# EAGLE library part 691311500009 (library Wuerth_Elektronik_eiCan_Terminal_Blocks_v2.0)
WR-TBL Serie 311 - 5.08 mm Open Vertical PCB Header , 9 Pins
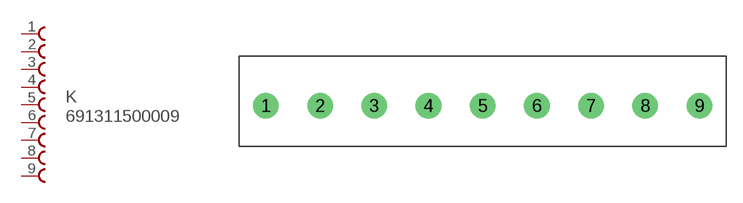
[diagram p94: symbol with the pads of 691311500009; footprint 691311500009]

Designator prefix K

## 691311500009  [691311500009]
1  1  pas
2  2  pas
3  3  pas
4  4  pas
5  5  pas
6  6  pas
7  7  pas
8  8  pas
9  9  pas

## Footprint 691311500009 (pad centres in mm)
WR-TBL Serie 311 - 5.08 mm Open Vertical PCB Header , 9 Pins
drill 1.6 round: 1 -35.56,0; 2 -30.48,0; 3 -25.4,0; 4 -20.32,0; 5 -15.24,0; 6 -10.16,0; 7 -5.08,0; 8 0,0; 9 5.08,0